# EAGLE library part MC14043B (library Bauteile)
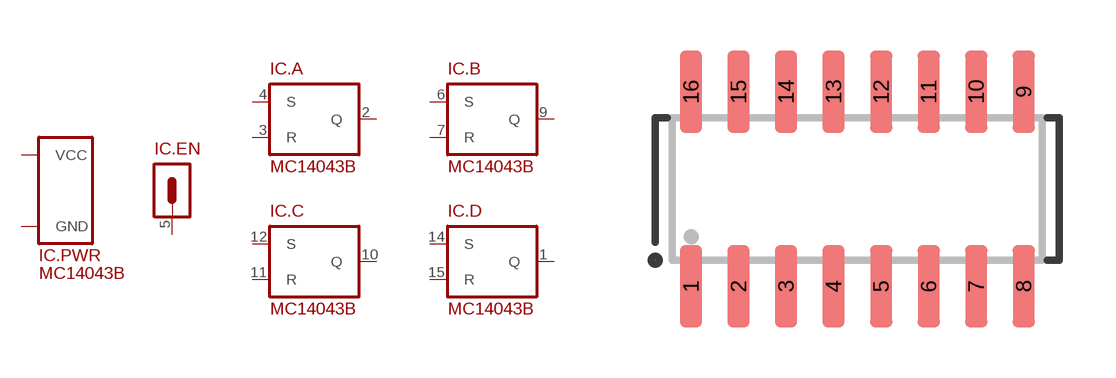
[diagram p89: symbol with the pads of SO16; footprint SO16]

Designator prefix IC; gates .PWR=SUPPLY_VCC/GND .EN=HEADER_1 .A=SR_FLIPFLOP .B=SR_FLIPFLOP .C=SR_FLIPFLOP .D=SR_FLIPFLOP

## MC14043B  [SO16]
1  .D:Q
2  .A:Q
3  .A:R
4  .A:S
5  .EN:PIN1
6  .B:S
7  .B:R
8  .PWR:GND
9  .B:Q
10  .C:Q
11  .C:R
12  .C:S
14  .D:S
15  .D:R
16  .PWR:VCC

## Footprint SO16 (pad centres in mm)
smd 0.6 x 2.2: 1 -4.445,-2.6; 2 -3.175,-2.6; 3 -1.905,-2.6; 4 -0.635,-2.6; 5 0.635,-2.6; 6 1.905,-2.6; 7 3.175,-2.6; 8 4.445,-2.6; 9 4.445,2.6; 10 3.175,2.6; 11 1.905,2.6; 12 0.635,2.6; 13 -0.635,2.6; 14 -1.905,2.6; 15 -3.175,2.6; 16 -4.445,2.6